# Altium schematic symbol library 0900PC15J0013E.Schlib: 1 symbol
Pins are listed as number, name and electrical type; pins without a type are passive.

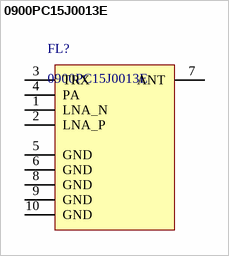
[diagram p0: symbol 0900PC15J0013E]

## 0900PC15J0013E
designator FL?
RF Balun 868MHz ~ 928MHz  0805 (2012 Metric), 10 PC Pad
pins: 1 LNA_N, 2 LNA_P, 3 TRX, 4 PA, 5 GND, 6 GND, 7 ANT, 8 GND, 9 GND, 10 GND